# EAGLE library part MCP1665 (library Eagle_CAD_parts)
IC REG BOOST ADJ 1A
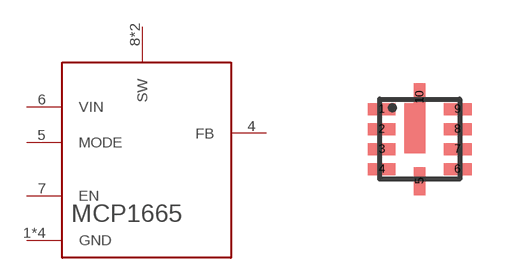
[diagram p32: symbol with the pads of 10-VQFN; footprint 10-VQFN]

Designator prefix -

## MCP1665 (DIGIKEY_PART_NUMBER: MCP1665T-E/MRACT-ND)  [10-VQFN]
1  GND
2  GND
3  GND
4  FB
5  MODE
6  VIN
7  EN
8  SW
9  SW
10  GND

## Footprint 10-VQFN (pad centres in mm)
smd 0.7 x 0.3: 1 -0.95,0.75; 2 -0.95,0.25; 3 -0.95,-0.25; 4 -0.95,-0.75; 6 0.95,-0.75; 7 0.95,-0.25; 8 0.95,0.25; 9 0.95,0.75
smd 0.3 x 0.7: 5 0,-1.05; 10 0,1.05